# EAGLE library part 61002021121 (library Wurth_Elektronik2)
WR-PHD 2.54mm Dual SMT Pin Header, 20 Pins =>Code : Con_BTB_PHD_2.54_2_61002021121 <http://katalog.we-online.de/media/images/eican/Con_BTB_PHD_2.54_2_6100xx21121_pf2.jpg> Details see: http://katalog.we-online.de/en/em/610_0xx_211_21 Created 2014-05-29, Karrer Zheng 2014 (C) Würth Elektronik
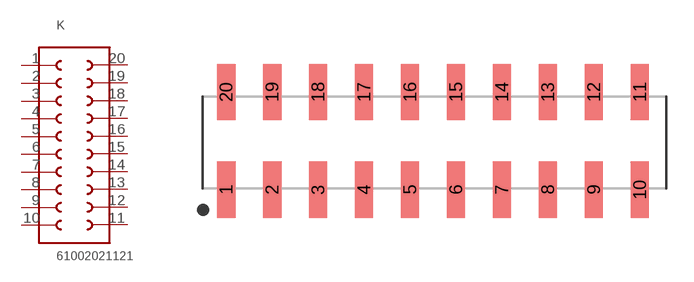
[diagram p80: symbol with the pads of 61002021121; footprint 61002021121]

Designator prefix K

## 61002021121  [61002021121]
1  1  pas
2  2  pas
3  3  pas
4  4  pas
5  5  pas
6  6  pas
7  7  pas
8  8  pas
9  9  pas
10  10  pas
11  11  pas
12  12  pas
13  13  pas
14  14  pas
15  15  pas
16  16  pas
17  17  pas
18  18  pas
19  19  pas
20  20  pas

## Footprint 61002021121 (pad centres in mm)
WR-PHD 2.54mm Dual SMT Pin Header, 20 Pins
smd 1 x 3.1: 1 -11.43,-2.7; 2 -8.89,-2.7; 3 -6.35,-2.7; 4 -3.81,-2.7; 5 -1.27,-2.7; 6 1.27,-2.7; 7 3.81,-2.7; 8 6.35,-2.7; 9 8.89,-2.7; 10 11.43,-2.7; 11 11.43,2.7; 12 8.89,2.7; 13 6.35,2.7; 14 3.81,2.7; 15 1.27,2.7; 16 -1.27,2.7; 17 -3.81,2.7; 18 -6.35,2.7; 19 -8.89,2.7; 20 -11.43,2.7